# EAGLE library part OPA124 (library work)
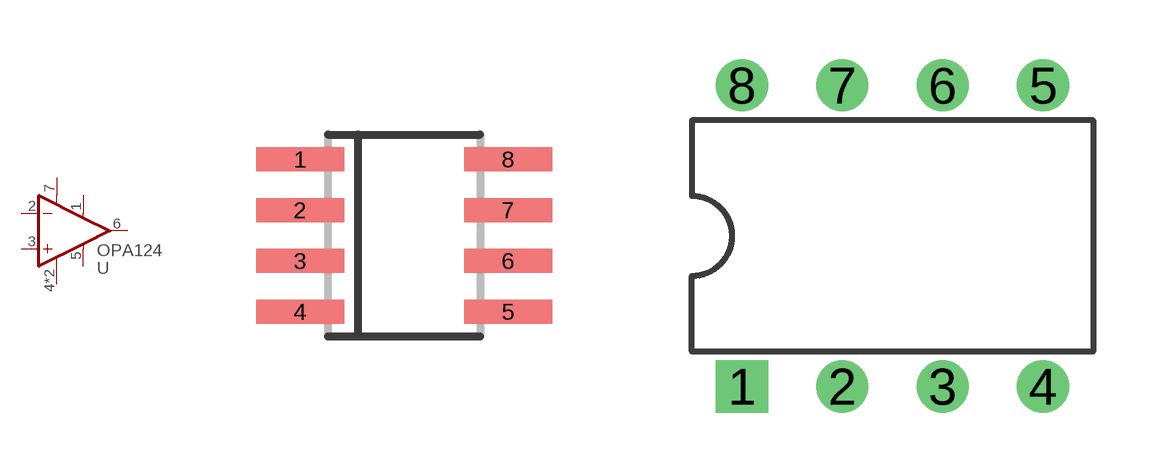
[diagram p98: symbol with the pads of SO8; footprints SO8, DIP8]

Designator prefix U

## OPA124-SMD  [SO8]
1  TRIM+  pwr
2  -IN  in
3  +IN  in
4  V-  pwr
5  TRIM-  pwr
6  OUT  out
7  V+  pwr
8  V-  pwr

## OPA124-PTH  [DIP8]
Pads as for SO8

## Footprint SO8 (pad centres in mm)
smd 2.2 x 0.6: 1 -2.6,1.905; 2 -2.6,0.635; 3 -2.6,-0.635; 4 -2.6,-1.905; 5 2.6,-1.905; 6 2.6,-0.635; 7 2.6,0.635; 8 2.6,1.905

## Footprint DIP8 (pad centres in mm)
drill 0.813 square: 1 -3.81,-3.81
drill 0.813: 2 -1.27,-3.81; 3 1.27,-3.81; 4 3.81,-3.81; 5 3.81,3.81; 6 1.27,3.81; 7 -1.27,3.81; 8 -3.81,3.81